# Altium footprint library TR-SPE-PULSE_JK0654X1XX.PcbLib: 1 footprints
Each footprint in its own frame and in the unit in brackets; x right, y up, seen from the top. Pads: shape width x height; smd on the part's side, far side on the other; paste and mask are expansions set on the pad; w line width, h text height; cw(c..) or ccw(c..) is an arc to the next point about the centre after c.
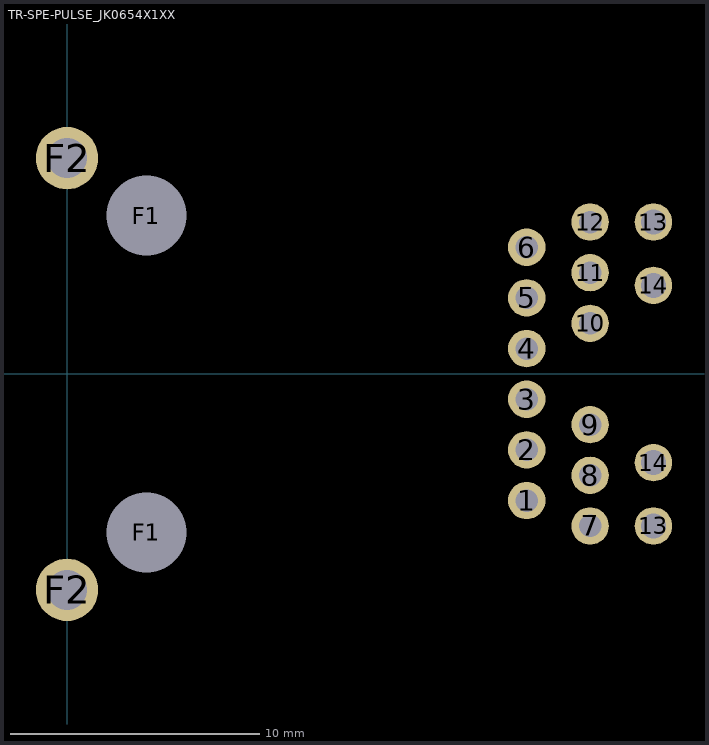
[diagram p0: the footprint, top view; thin cyan lines are the x and y axes]

## TR-SPE-PULSE_JK0654X1XX [mm]
pads (20):
  round 1.5 hole 0.9: 1(18.42,-5.07) 2(18.42,-3.04) 3(18.42,-1.01) 4(18.42,1.02) 5(18.42,3.05) 6(18.42,5.08) 7(20.96,-6.09) 8(20.96,-4.06) 9(20.96,-2.03) 10(20.96,2.03) 11(20.96,4.06) 12(20.96,6.09)
  round 1.5 hole 1: 13(23.5,-6.09) 13(23.5,6.09) 14(23.5,-3.55) 14(23.5,3.55)
  round 1.5 hole 3.2: F1(3.18,-6.35) F1(3.18,6.35)
  round 2.5 hole 1.6: F2(0,-8.65) F2(0,8.65)
3D body: height 14.95, standoff -3.67, extent -7.747,-9.525 24.943,9.455